# EAGLE library part 61300611821 (library Wurth_Elektronik_Electromechanic_Board_to_Board_Connectors_rev16a)
WR-PHD 2.54mm Socket Header, 6 Pins =>Code : Con_BTB_SHD_2.54_1_THT_61300611821 <http://katalog.we-online.de/media/images/eican/Con_BTB_SHD_2.54_1_THT_6130xx11821_pf2.jpg> Details see: http://katalog.we-online.de/en/em/613_0xx_118_21 Created 2014-05-29, Karrer Zheng 2014 (C) Würth Elektronik
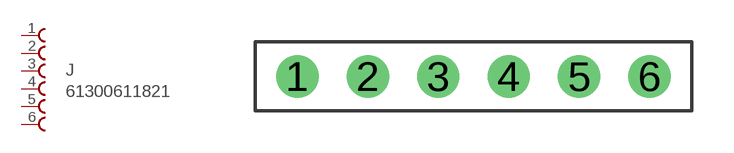
[diagram p90: symbol with the pads of 61300611821; footprint 61300611821]

Designator prefix J

## 61300611821  [61300611821]
1  1  pas
2  2  pas
3  3  pas
4  4  pas
5  5  pas
6  6  pas

## Footprint 61300611821 (pad centres in mm)
WR-PHD 2.54mm Socket Header, 6 Pins
drill 1.02: 1 -6.35,0; 2 -3.81,0; 3 -1.27,0; 4 1.27,0; 5 3.81,0; 6 6.35,0